# Altium footprint library FPGA_breakout_board_v1.PcbLib: 33 footprints (part 3 of 3)
Each footprint in its own frame and in the unit in brackets; x right, y up, seen from the top. Pads: shape width x height; smd on the part's side, far side on the other; paste and mask are expansions set on the pad; w line width, h text height; cw(c..) or ccw(c..) is an arc to the next point about the centre after c.
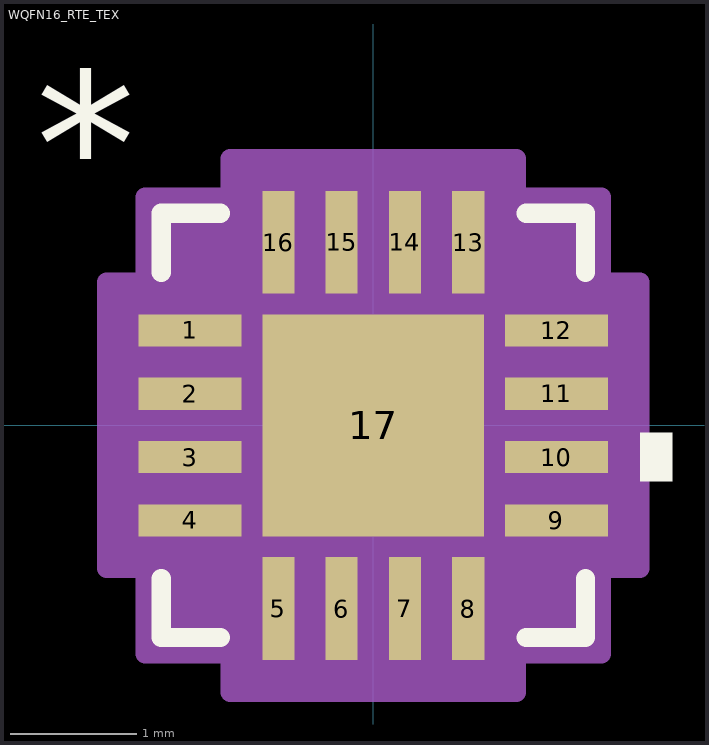
[diagram p2: the footprint, top view; thin cyan lines are the x and y axes]

## WQFN16_RTE_TEX [mil]
pads (17):
  rect 32x10 smd paste+0 mask+0: 1(-57,29.54) 2(-57,9.85) 3(-57,-9.85) 4(-57,-29.54) 9(57,-29.54) 10(57,-9.85) 11(57,9.85) 12(57,29.54)
  rect 10x32 smd paste+0 mask+0: 5(-29.54,-57) 6(-9.85,-57) 7(9.85,-57) 8(29.54,-57) 13(29.54,57) 14(9.85,57) 15(-9.85,57) 16(-29.54,57)
  rect 69x69 smd paste+0 mask+0: 17(0,0)
Top Overlay:
  region: 83,-2.35 93,-2.35 93,-17.34 83,-17.34
  lines w6: -66,-47.63 -66,-66 -47.63,-66 ; -66,47.63 -66,66 -47.63,66 ; 47.63,-66 66,-66 66,-47.63 ; 47.63,66 66,66 66,47.63
  text "*" at -105,65 h50
Top 3D Body:
  lines w1: -61,11 -11,61 ; -61,-61 61,-61 61,61 -61,61 -61,-61 ; -61,-35.53 -61,-23.54 -61,-35.53 ; -61,-15.85 -61,-3.85 -61,-15.85 ; -61,3.85 -61,15.85 -61,3.85 ; -61,23.54 -61,35.53 -61,23.54 ; -35.53,-61 -23.54,-61 -35.53,-61 ; -35.53,61 -23.54,61 -35.53,61 ; -15.85,-61 -3.85,-61 -15.85,-61 ; -15.85,61 -3.85,61 -15.85,61 ; 3.85,-61 15.85,-61 3.85,-61 ; 3.85,61 15.85,61 3.85,61 ; 23.54,-61 35.53,-61 23.54,-61 ; 23.54,61 35.53,61 23.54,61 ; 61,-35.53 61,-23.54 61,-35.53 ; 61,-15.85 61,-3.85 61,-15.85 ; 61,3.85 61,15.85 61,3.85 ; 61,23.54 61,35.53 61,23.54
  text "*" at -53.5,14.38 h50
Top Courtyard:
  region: -44.53,-71 -71,-71 -71,-44.53 -83,-44.53 -83,44.53 -71,44.53 -71,71 -44.53,71 -44.53,83 44.53,83 44.53,71 71,71 71,44.53 83,44.53 83,-44.53 71,-44.53 71,-71 44.53,-71 44.53,-83 -44.53,-83
  lines w6: -83,-44.53 -71,-44.53 -71,-71 -44.53,-71 -44.53,-83 44.53,-83 44.53,-71 71,-71 71,-44.53 83,-44.53 83,44.53 71,44.53 71,71 44.53,71 44.53,83 -44.53,83 -44.53,71 -71,71 -71,44.53 -83,44.53 -83,-44.53
3D body "WQFN16_RTE_TEX.step": height 32.09, standoff 0, extent -60.98,-60.98 60.98,60.98